# EAGLE library part SH5-10 (library con-rib)
RIBBON CABLE CONNECTOR Flachstecker / Faston
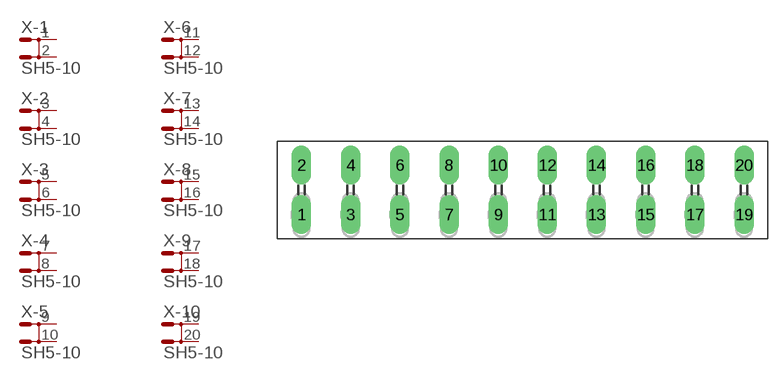
[diagram p5: symbol with the pads of SH5-10; footprint SH5-10]

Designator prefix X; gates -1=MD -2=MD -3=MD -4=MD -5=MD -6=MD -7=MD -8=MD -9=MD -10=MD

## SH5-10 (OC_FARNELL: unknown; OC_NEWARK: unknown)  [SH5-10]
1  -1:1  pas
2  -1:2  pas
3  -2:1  pas
4  -2:2  pas
5  -3:1  pas
6  -3:2  pas
7  -4:1  pas
8  -4:2  pas
9  -5:1  pas
10  -5:2  pas
11  -6:1  pas
12  -6:2  pas
13  -7:1  pas
14  -7:2  pas
15  -8:1  pas
16  -8:2  pas
17  -9:1  pas
18  -9:2  pas
19  -10:1  pas
20  -10:2  pas

## Footprint SH5-10 (pad centres in mm)
RIBBON CABLE CONNECTOR Flachstecker / Faston
drill 1.321 long: 1 -22.504,-2.515; 2 -22.504,2.515; 3 -17.501,-2.515; 4 -17.501,2.515; 5 -12.497,-2.515; 6 -12.497,2.515; 7 -7.493,-2.515; 8 -7.493,2.515; 9 -2.489,-2.515; 10 -2.489,2.515; 11 2.489,-2.515; 12 2.489,2.515; 13 7.493,-2.515; 14 7.493,2.515; 15 12.497,-2.515; 16 12.497,2.515; 17 17.501,-2.515; 18 17.501,2.515; 19 22.504,-2.515; 20 22.504,2.515